# Altium footprint library DIODE_TH_3.PcbLib: 1 footprints
Each footprint in its own frame and in the unit in brackets; x right, y up, seen from the top. Pads: shape width x height; smd on the part's side, far side on the other; paste and mask are expansions set on the pad; w line width, h text height; cw(c..) or ccw(c..) is an arc to the next point about the centre after c.
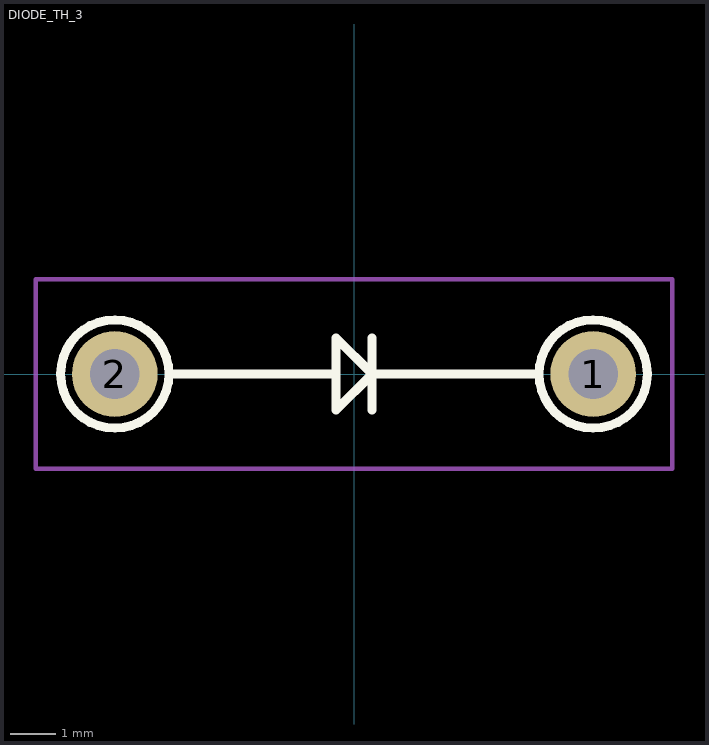
[diagram p0: the footprint, top view; thin cyan lines are the x and y axes]

## DIODE_TH_3 [mm]
pads (2):
  round 1.9 hole 1.1: 1(5.3,0) 2(-5.3,0)
Top Overlay:
  circle w0.2: c-5.3,0 r1.2
  circle w0.2: c5.3,0 r1.2
  lines w0.2: -4.1,0 -0.4,0 ; 0.4,-0.8 0.4,0.8 ; 4.1,0 0.4,0 ; -0.4,0.8 0.4,0 ; -0.4,0.8 -0.4,-0.8 0.4,0 ; -0.4,0.8 -0.4,0.8 ; 0.4,0 0.4,0
Top Courtyard:
  lines w0.1: -7.05,-2.1 -7.05,-0.2 -7.05,2.1 7.05,2.1 7.05,-2.1 -7.05,-2.1
3D body: height 2.59, standoff 0, extent -2,-1.297 2,1.297
3D body: height 1.65, standoff 0.65, extent -5.3,-0.499 5.3,0.499